# Altium schematic symbol library Crystal.SchLib: 15 symbols
Pins are listed as number, name and electrical type; pins without a type are passive.

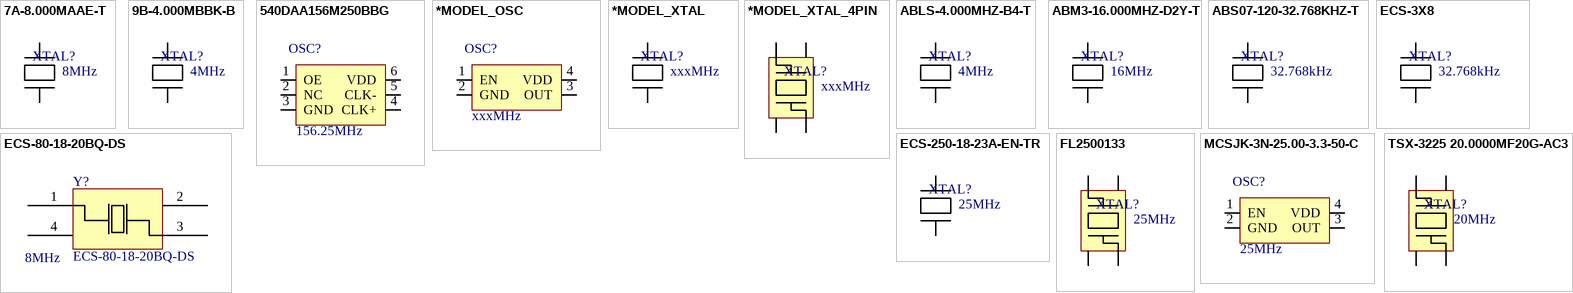
[diagram p0: symbols 7A-8.000MAAE-T to TSX-3225 20.0000MF20G-AC3]

## 7A-8.000MAAE-T
designator XTAL?  value 8MHz  (hidden comment: 7A-8.000MAAE-T)
CRYSTAL 8MHZ 12PF SMD; Manufacturer: TXC CORPORATION; Mount Type: SMD; Supplier 1: Mouser; Supplier 2: Newark; Supplier 3: Digi-Key; Supplier Part Number 1: 717-7A-8.000MAAE-T; Supplier Part Number 2: 79T3206; Supplier Part Number 3: 887-1740-1-ND
footprint TXC 7A Series
pins: 1, 2

## 9B-4.000MBBK-B
designator XTAL?  value 4MHz  (hidden comment: 9B-4.000MBBK-B)
CRYSTAL 4.0000MHZ 20PF T/H; Manufacturer: TXC CORPORATION; Mount Type: PTH; Supplier 1: Digi-Key; Supplier Part Number 1: 887-2028-ND
footprint 9B SERIES (Crystal PTH)
pins: 1, 2

## 540DAA156M250BBG
designator OSC?, comment value 156.25MHz  (hidden comment: 540DAA156M250BBGPart Number)
XTAL OSC XO 156.250 MHZ CML; Manufacturer: Silicon Labs; Frequency Stability: 20ppm; Mount Type: SMD
footprint Si540 Series
pins: 1 OE, 2 NC, 3 GND (power), 4 CLK+, 5 CLK-, 6 VDD (power)

## *MODEL_OSC
designator OSC?, comment value xxxMHz  (hidden comment: Part Number)
Dscription; Frequency Stability: xxppm; Mount Type: *; Manufacturer: *
pins: 1 EN, 2 GND, 3 OUT, 4 VDD

## *MODEL_XTAL
designator XTAL?, comment value xxxMHz  (hidden comment: Part Number)
Description; Load Capacitance: xxpF; Frequency Stability: xxppm; Mount Type: *; Manufacturer: *
pins: 1, 2

## *MODEL_XTAL_4PIN
designator XTAL?, comment value xxxMHz  (hidden comment: Part Number)
Description; Load Capacitance: xxpF; Frequency Stability: xxppm; Mount Type: *; Manufacturer: *
pins: 1, 2, 3, 4

## ABLS-4.000MHZ-B4-T
designator XTAL?  value 4MHz  (hidden comment: ABLS-4.000MHZ-B4-T)
CRYSTAL 4MHZ 18PF SMD; Manufacturer: Abracon Corporation; Mount Type: SMD; Supplier 1: Mouser; Supplier 2: Newark; Supplier 3: Digi-Key; Supplier Part Number 1: 815-ABLS-4.0M-T; Supplier Part Number 2: 76R7488; Supplier Part Number 3: 535-10202-1-ND
footprint ABSL Series
pins: 1, 2

## ABM3-16.000MHZ-D2Y-T
designator XTAL?  value 16MHz  (hidden comment: ABM3-16.000MHZ-D2Y-T)
CRYSTAL 16.0000MHZ 18PF SMD; Manufacturer: Abracon LLC; Mount Type: SMD; Load Capacitance: 18pF; Supplier 1: Farnell; Supplier Part Number 1: 2467791; Supplier 2: Newark; Supplier Part Number 2: 77R1470; Supplier 3: Avnet; Supplier Part Number 3: ABM3-16.000MHZ-D2Y-T/BKN; Supplier 4: Digi-Key; Supplier Part Number 4: 535-10638-1-ND
footprint ABM3
pins: 1, 2

## ABS07-120-32.768KHZ-T
designator XTAL?  value 32.768kHz  (hidden comment: ABS07-120-32.768KHZ-T)
CRYSTAL 32.768KHZ 6PF SMD; Manufacturer: Abracon Corporation; Mount Type: SMD; Supplier 1: Newark; Supplier 2: Mouser; Supplier 3: Digi-Key; Supplier Part Number 1: 65W7787; Supplier Part Number 2: 815-ABS0712032.768KT; Supplier Part Number 3: 535-11937-1-ND
footprint abs07
pins: 1, 2

## ECS-3X8
designator XTAL?  value 32.768kHz  (hidden comment: ECS-3X8)
CRYSTAL 32.768KHZ 12.5PF CYL; Manufacturer: ECS Inc; Mount Type: PTH; Supplier 1: Digi-Key; Supplier 2: Mouser; Supplier Part Number 1: X1123-ND; Supplier Part Number 2: 520-TFC3X8-X
footprint CRYSTAL_RADIAL 3.1mm 1.1mm pitch (Crystal Radial 3.1mm 1.1mm)
pins: 1, 2

## ECS-80-18-20BQ-DS
designator Y?  value 8MHz
8MHz ±30ppm Crystal 18pF 60 Ohm -40°C ~ 125°C AEC-Q200 Surface Mount 4-SMD, No Lead (DFN, LCC); Manufacturer: ECS Inc.; Mount Type: SMD; Supplier 1: Arrow; Supplier Part Number 1: Wa-r8pCS4L_RKIuRJC01-MYdv5dbextuLEs7Z-4wfB8; Supplier 2: Digi-Key; Supplier Part Number 2: XC2015CT-ND
footprint ECS-80-18-20BQ-DS
pins: 1 In/Out, 2 Gnd, 3 In/Out, 4 GND

## ECS-250-18-23A-EN-TR
designator XTAL?  value 25MHz  (hidden comment: ECS-250-18-23A-EN-TR)
CRYSTAL 25MHZ 18PF SMD; Manufacturer: ECS Inc; Mount Type: SMD; Supplier 1: Mouser; Supplier 2: Digi-Key; Supplier Part Number 1: 520-250-18-23A-EN; Supplier Part Number 2: XC1671CT-ND
footprint ECX-64
pins: 1, 2

## FL2500133
designator XTAL?  value 25MHz  (hidden comment: FL2500133)
CRYSTAL 25MHZ 18PF SMD; Manufacturer: Diodes Incorporated; Mount Type: SMD; Load Capacitance: 18pF; Supplier 1: Digikey; Supplier Part Number 1: FL2500133CT-ND
footprint FL Series
pins: 1, 2, 3, 4

## MCSJK-3N-25.00-3.3-50-C
designator OSC?  value 25MHz  (hidden comment: MCSJK-3N-25.00-3.3-50-C)
Oscillator, 25 MHz, 50 ppm, SMD, 3.2x 2.5mm; Manufacturer: MULTICOMP PRO; Mount Type: SMD
footprint 3225
pins: 1 EN, 2 GND, 3 OUT, 4 VDD

## TSX-3225 20.0000MF20G-AC3
designator XTAL?  value 20MHz  (hidden comment: TSX-3225 20.0000MF20G-AC3)
CRYSTAL 20.0000MHZ 9PF SMD; Manufacturer: EPSON; Frequency Stability: 10ppm; Mount Type: SMD; Load Capacitance: 9pF
footprint 3225
pins: 1, 2, 3, 4